# Altium schematic symbol library main 0402.SchLib: 93 symbols
Pins are listed as number, name and electrical type; pins without a type are passive.

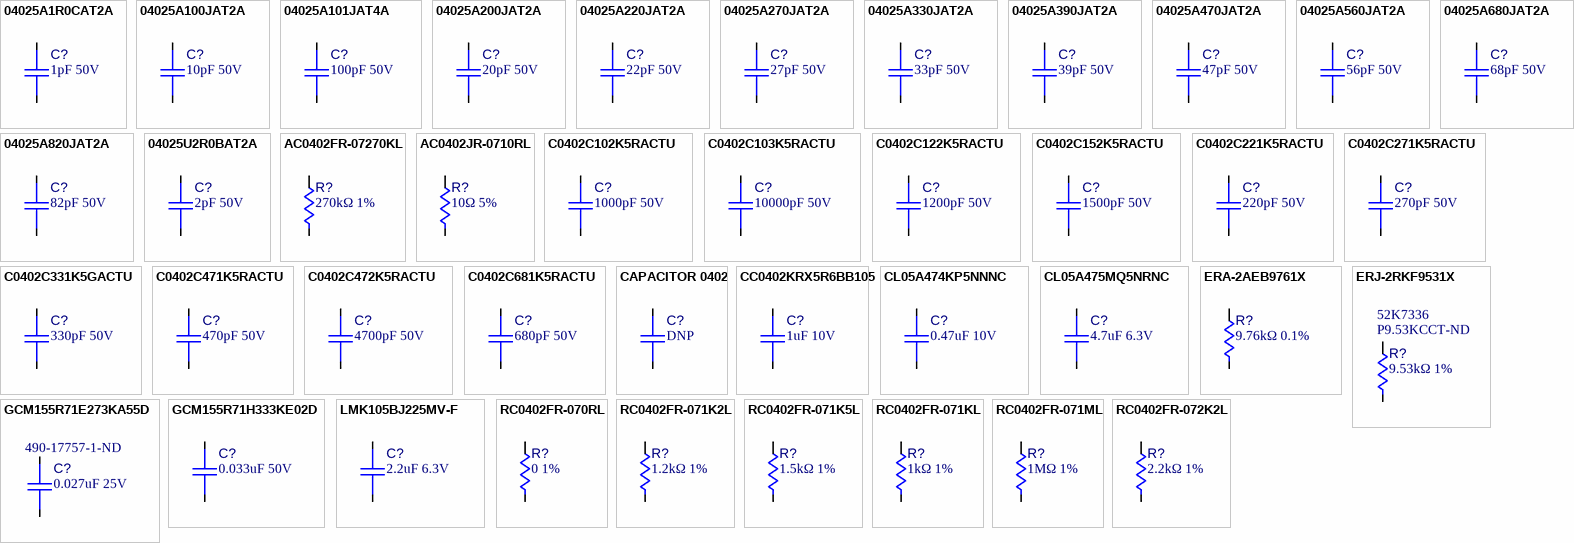
[diagram p0: symbols 04025A1R0CAT2A to RC0402FR-072K2L]

## 04025A1R0CAT2A
designator C?, comment 1pF 50V
CAP CER 1PF 50V C0G/NP0 0402; Manufacturer: AVX; Manufacturer Part Number: 04025A1R0CAT2A; Tolerance: ±0.25pF; Temperature Coefficient: C0G, NP0; Category: Capacitors; Operating Temperature: -55°C ~ 125°C; Voltage - Rated: 50V; Mounting Type: Surface Mount, MLCC; Capacitance: 1pF; Supplier 1: Digi-Key; Supplier Part Number 1: 478-1058-1-ND
footprint CAPC 0402 (1mmX0.5mm)
pins: 1, 2

## 04025A100JAT2A
designator C?, comment 10pF 50V
CAP CER 10PF 50V C0G/NP0 0402; Manufacturer: AVX; Manufacturer Part Number: 04025A100JAT2A; Tolerance: ±5%; Temperature Coefficient: C0G, NP0; Category: Capacitors; Operating Temperature: -55°C ~ 125°C; Voltage - Rated: 50V; Mounting Type: Surface Mount, MLCC; Capacitance: 10pF; Supplier 1: Digi-Key; Supplier Part Number 1: 478-1070-1-ND; Supplier 2: Newark; Supplier Part Number 2: 96M1128
footprint CAPC 0402 (1mmX0.5mm)
pins: 1, 2

## 04025A101JAT4A
designator C?, comment 100pF 50V
CAP CER 100PF 50V C0G/NP0 0402; Manufacturer: AVX; Manufacturer Part Number: 04025A101JAT4A; Tolerance: ±5%; Temperature Coefficient: C0G, NP0; Category: Capacitors; Operating Temperature: -55°C ~ 125°C; Voltage - Rated: 50V; Mounting Type: Surface Mount, MLCC; Capacitance: 100pF; Supplier 1: Digi-Key; Supplier Part Number 1: 478-10668-1-ND
footprint CAPC 0402 (1mmX0.5mm)
pins: 1, 2

## 04025A200JAT2A
designator C?, comment 20pF 50V
CAP CER 20PF 50V C0G/NP0 0402; Manufacturer: AVX; Manufacturer Part Number: 04025A200JAT2A; Tolerance: ±5%; Temperature Coefficient: C0G, NP0; Category: Capacitors; Operating Temperature: -55°C ~ 125°C; Voltage - Rated: 50V; Mounting Type: Surface Mount, MLCC; Capacitance: 20pF; Supplier 1: Digi-Key; Supplier Part Number 1: 478-5764-1-ND
footprint CAPC 0402 (1mmX0.5mm)
pins: 1, 2

## 04025A220JAT2A
designator C?, comment 22pF 50V
CAP CER 22PF 50V C0G/NP0 0402; Manufacturer: AVX; Manufacturer Part Number: 04025A200JAT2A; Tolerance: ±5%; Temperature Coefficient: C0G, NP0; Category: Capacitors; Operating Temperature: -55°C ~ 125°C; Voltage - Rated: 50V; Mounting Type: Surface Mount, MLCC; Capacitance: 22pF; Supplier 1: Digi-Key; Supplier Part Number 1: 478-1074-1-ND; Supplier 2: Newark; Supplier Part Number 2: 96M1143
footprint CAPC 0402 (1mmX0.5mm)
pins: 1, 2

## 04025A270JAT2A
designator C?, comment 27pF 50V
CAP CER 27PF 50V C0G/NP0 0402; Manufacturer: AVX; Manufacturer Part Number: 04025A270JAT2A; Tolerance: ±5%; Temperature Coefficient: C0G, NP0; Category: Capacitors; Operating Temperature: -55°C ~ 125°C; Voltage - Rated: 50V; Mounting Type: Surface Mount, MLCC; Capacitance: 27pF; Supplier 1: Digi-Key; Supplier Part Number 1: 478-1075-1-ND; Supplier 2: Newark; Supplier Part Number 2: 26AC5354; Supplier 3: Mouser; Supplier Part Number 3: 581-04025A270J
footprint CAPC 0402 (1mmX0.5mm)
pins: 1, 2

## 04025A330JAT2A
designator C?, comment 33pF 50V
CAP CER 33PF 50V C0G/NP0 0402; Manufacturer: AVX; Manufacturer Part Number: 04025A330JAT2A; Tolerance: ±5%; Temperature Coefficient: C0G, NP0; Category: Capacitors; Operating Temperature: -55°C ~ 125°C; Voltage - Rated: 50V; Mounting Type: Surface Mount, MLCC; Capacitance: 33pF; Supplier 1: Digi-Key; Supplier Part Number 1: 478-1076-1-ND
footprint CAPC 0402 (1mmX0.5mm)
pins: 1, 2

## 04025A390JAT2A
designator C?, comment 39pF 50V
CAP CER 39PF 50V C0G/NP0 0402; Manufacturer: AVX; Manufacturer Part Number: 04025A390JAT2A; Tolerance: ±5%; Temperature Coefficient: C0G, NP0; Category: Capacitors; Operating Temperature: -55°C ~ 125°C; Voltage - Rated: 50V; Mounting Type: Surface Mount, MLCC; Capacitance: 39pF; Supplier 1: Digi-Key; Supplier Part Number 1: 478-1077-1-ND
footprint CAPC 0402 (1mmX0.5mm)
pins: 1, 2

## 04025A470JAT2A
designator C?, comment 47pF 50V
CAP CER 47PF 50V C0G/NP0 0402; Manufacturer: AVX; Manufacturer Part Number: 04025A470JAT2A; Tolerance: ±5%; Temperature Coefficient: C0G, NP0; Category: Capacitors; Operating Temperature: -55°C ~ 125°C; Voltage - Rated: 50V; Mounting Type: Surface Mount, MLCC; Capacitance: 47pF; Supplier 1: Digi-Key; Supplier Part Number 1: 478-1078-1-ND; Supplier 2: Newark; Supplier Part Number 2: 96M1153; Supplier 3: Mouser; Supplier Part Number 3: 581-04025A470J
footprint CAPC 0402 (1mmX0.5mm)
pins: 1, 2

## 04025A560JAT2A
designator C?, comment 56pF 50V
CAP CER 56PF 50V C0G/NP0 0402; Manufacturer: AVX; Manufacturer Part Number: 04025A560JAT2A; Tolerance: ±5%; Temperature Coefficient: C0G, NP0; Category: Capacitors; Operating Temperature: -55°C ~ 125°C; Voltage - Rated: 50V; Mounting Type: Surface Mount, MLCC; Capacitance: 56pF; Supplier 1: Digi-Key; Supplier Part Number 1: 478-1079-1-ND
footprint CAPC 0402 (1mmX0.5mm)
pins: 1, 2

## 04025A680JAT2A
designator C?, comment 68pF 50V
CAP CER 68PF 50V C0G/NP0 0402; Manufacturer: AVX; Manufacturer Part Number: 04025A680JAT2A; Tolerance: ±5%; Temperature Coefficient: C0G, NP0; Category: Capacitors; Operating Temperature: -55°C ~ 125°C; Voltage - Rated: 50V; Mounting Type: Surface Mount, MLCC; Capacitance: 68pF; Supplier 1: Digi-Key; Supplier Part Number 1: 478-1080-1-ND
footprint CAPC 0402 (1mmX0.5mm)
pins: 1, 2

## 04025A820JAT2A
designator C?, comment 82pF 50V
CAP CER 82PF 50V C0G/NP0 0402; Manufacturer: AVX; Manufacturer Part Number: 04025A820JAT2A; Tolerance: ±5%; Temperature Coefficient: C0G, NP0; Category: Capacitors; Operating Temperature: -55°C ~ 125°C; Voltage - Rated: 50V; Mounting Type: Surface Mount, MLCC; Capacitance: 82pF; Supplier 1: Digi-Key; Supplier Part Number 1: 478-1081-1-ND
footprint CAPC 0402 (1mmX0.5mm)
pins: 1, 2

## 04025U2R0BAT2A
designator C?, comment 2pF 50V
CAP CER 2PF 50V C0G/NP0 0402; Manufacturer: AVX; Manufacturer Part Number: 04025U2R0BAT2A; Tolerance: ±0.25pF; Temperature Coefficient: C0G, NP0; Category: Capacitors; Operating Temperature: -55°C ~ 125°C; Voltage - Rated: 50V; Mounting Type: Surface Mount, MLCC; Capacitance: 2pF; Supplier 1: Digi-Key; Supplier Part Number 1: 478-3833-1-ND
footprint CAPC 0402 (1mmX0.5mm)
pins: 1, 2

## AC0402FR-07270KL
designator R?, comment 270kΩ 1%
RES SMD 270K OHM 1% 1/16W 0402; Manufacturer: Yageo; Manufacturer Part Number: AC0402FR-07270KL; Power (Watts): 0.063W, 1/16W; Temperature Coefficient: ±100ppm/°C; Category: Resistors; Tolerance: ±1%; Operating Temperature: -55°C ~ 155°C; Resistance: 270kΩ; Supplier 1: Digi-Key; Supplier Part Number 1: 311-270KLBCT-ND
footprint RESISTOR 0402 (1mm x 0.5mm)
pins: 1, 2

## AC0402JR-0710RL
designator R?, comment 10Ω 5%
RES SMD 10 OHM 5% 1/16W 0402; Manufacturer: Yageo; Manufacturer Part Number: AC0402JR-0710RL; Power (Watts): 0.063W, 1/16W; Temperature Coefficient: ±100ppm/°C; Category: Resistors; Tolerance: ±5%; Operating Temperature: -55°C ~ 155°C; Resistance: 10Ω; Supplier 1: Digi-Key; Supplier Part Number 1: YAG3519CT-ND
footprint RESISTOR 0402 (1mm x 0.5mm)
pins: 1, 2

## C0402C102K5RACTU
designator C?, comment 1000pF 50V
CAP CER 1000PF 50V C0G/NP0 0402; Manufacturer: KEMET; Manufacturer Part Number: C0402C102K5RACTU; Tolerance: ±10%; Temperature Coefficient: X7R; Category: Capacitors; Operating Temperature: -55°C ~ 125°C; Voltage - Rated: 50V; Mounting Type: Surface Mount, MLCC; Capacitance: 1000pF; Supplier 1: Digi-Key; Supplier Part Number 1: 399-1032-1-ND; Supplier 2: Newark; Supplier Part Number 2: 74C3082
footprint CAPC 0402 (1mmX0.5mm)
pins: 1, 2

## C0402C103K5RACTU
designator C?, comment 10000pF 50V
CAP CER 10000PF 50V C0G/NP0 0402; Manufacturer: KEMET; Manufacturer Part Number: C0402C103K5RACTU; Tolerance: ±10%; Temperature Coefficient: X7R; Category: Capacitors; Operating Temperature: -55°C ~ 125°C; Voltage - Rated: 50V; Mounting Type: Surface Mount, MLCC; Capacitance: 10000pF; Supplier 1: Digi-Key; Supplier Part Number 1: 399-3066-1-ND; Supplier 2: Newark; Supplier Part Number 2: 53M7152; Supplier 3: Newark; Supplier Part Number 3: 70K9076; Supplier 4: Digi-Key; Supplier Part Number 4: 399-C0402C103K5RAC7867CT-ND; Supplier 5: Mouser; Supplier Part Number 5: 80-C0402C103K5R
footprint CAPC 0402 (1mmX0.5mm)
pins: 1, 2

## C0402C122K5RACTU
designator C?, comment 1200pF 50V
CAP CER 1200PF 50V C0G/NP0 0402; Manufacturer: KEMET; Manufacturer Part Number: C0402C122K5RACTU; Tolerance: ±10%; Temperature Coefficient: X7R; Category: Capacitors; Operating Temperature: -55°C ~ 125°C; Voltage - Rated: 50V; Mounting Type: Surface Mount, MLCC; Capacitance: 1200pF; Supplier 1: Digi-Key; Supplier Part Number 1: 399-1028-1-ND; Supplier 2: Newark; Supplier Part Number 2: 01J3304; Supplier 3: Avnet; Supplier Part Number 3: 01J3304; Supplier 4: Digi-Key; Supplier Part Number 4: 399-C0402C122K5RAC7867CT-ND
footprint CAPC 0402 (1mmX0.5mm)
pins: 1, 2

## C0402C152K5RACTU
designator C?, comment 1500pF 50V
CAP CER 1500PF 50V C0G/NP0 0402; Manufacturer: KEMET; Manufacturer Part Number: C0402C152K5RACTU; Tolerance: ±10%; Temperature Coefficient: X7R; Category: Capacitors; Operating Temperature: -55°C ~ 125°C; Voltage - Rated: 50V; Mounting Type: Surface Mount, MLCC; Capacitance: 1500pF; Supplier 1: Newark; Supplier Part Number 1: 01J3924; Supplier 2: Avnet; Supplier Part Number 2: 03C3044; Supplier 3: Digi-Key; Supplier Part Number 3: 399-C0402C152K5RAC7867CT-ND
footprint CAPC 0402 (1mmX0.5mm)
pins: 1, 2

## C0402C221K5RACTU
designator C?, comment 220pF 50V
CAP CER 220PF 50V C0G/NP0 0402; Manufacturer: KEMET; Manufacturer Part Number: C0402C221K5RACTU; Tolerance: ±10%; Temperature Coefficient: X7R; Category: Capacitors; Operating Temperature: -55°C ~ 125°C; Voltage - Rated: 50V; Mounting Type: Surface Mount, MLCC; Capacitance: 220pF; Supplier 1: Digi-Key; Supplier Part Number 1: 399-1030-1-ND; Supplier 2: Newark; Supplier Part Number 2: 07J4442; Supplier 3: Mouser; Supplier Part Number 3: 80-C0402C221K5R; Supplier 4: Digi-Key; Supplier Part Number 4: 399-C0402C221K5RAC7867CT-ND
footprint CAPC 0402 (1mmX0.5mm)
pins: 1, 2

## C0402C271K5RACTU
designator C?, comment 270pF 50V
CAP CER 270PF 50V C0G/NP0 0402; Manufacturer: KEMET; Manufacturer Part Number: C0402C271K5RACTU; Tolerance: ±10%; Temperature Coefficient: X7R; Category: Capacitors; Operating Temperature: -55°C ~ 125°C; Voltage - Rated: 50V; Mounting Type: Surface Mount, MLCC; Capacitance: 270pF; Supplier 1: Digi-Key; Supplier Part Number 1: 399-7784-1-ND
footprint CAPC 0402 (1mmX0.5mm)
pins: 1, 2

## C0402C331K5GACTU
designator C?, comment 330pF 50V
CAP CER 330PF 50V C0G/NP0 0402; Manufacturer: KEMET; Manufacturer Part Number: C0402C331K5GACTU; Tolerance: ±10%; Temperature Coefficient: X7R; Category: Capacitors; Operating Temperature: -55°C ~ 125°C; Voltage - Rated: 50V; Mounting Type: Surface Mount, MLCC; Capacitance: 330pF; Supplier 1: Digi-Key; Supplier Part Number 1: 399-8963-1-ND
footprint CAPC 0402 (1mmX0.5mm)
pins: 1, 2

## C0402C471K5RACTU
designator C?, comment 470pF 50V
CAP CER 470PF 50V C0G/NP0 0402; Manufacturer: KEMET; Manufacturer Part Number: C0402C471K5RACTU; Tolerance: ±10%; Temperature Coefficient: X7R; Category: Capacitors; Operating Temperature: -55°C ~ 125°C; Voltage - Rated: 50V; Mounting Type: Surface Mount, MLCC; Capacitance: 470pF; Supplier 1: Digi-Key; Supplier Part Number 1: 399-1025-1-ND; Supplier 2: Newark; Supplier Part Number 2: 88C9981
footprint CAPC 0402 (1mmX0.5mm)
pins: 1, 2

## C0402C472K5RACTU
designator C?, comment 4700pF 50V
CAP CER 4700PF 50V C0G/NP0 0402; Manufacturer: KEMET; Manufacturer Part Number: C0402C472K5RACTU; Tolerance: ±10%; Temperature Coefficient: X7R; Category: Capacitors; Operating Temperature: -55°C ~ 125°C; Voltage - Rated: 50V; Mounting Type: Surface Mount, MLCC; Capacitance: 4700pF; Supplier 1: Digi-Key; Supplier Part Number 1: 399-3072-1-ND; Supplier 2: Newark; Supplier Part Number 2: 53M7170
footprint CAPC 0402 (1mmX0.5mm)
pins: 1, 2

## C0402C681K5RACTU
designator C?, comment 680pF 50V
CAP CER 680PF 50V C0G/NP0 0402; Manufacturer: KEMET; Manufacturer Part Number: C0402C681K5RACTU; Tolerance: ±10%; Temperature Coefficient: X7R; Category: Capacitors; Operating Temperature: -55°C ~ 125°C; Voltage - Rated: 50V; Mounting Type: Surface Mount, MLCC; Capacitance: 680pF; Supplier 1: Digi-Key; Supplier Part Number 1: 399-1027-1-ND; Supplier 2: Newark; Supplier Part Number 2: 14AC3619; Supplier 3: Digi-Key; Supplier Part Number 3: 399-C0402C681K5RAC7867CT-ND; Supplier 4: Mouser; Supplier Part Number 4: 80-C0402C681K5R
footprint CAPC 0402 (1mmX0.5mm)
pins: 1, 2

## CAPACITOR 0402
designator C?, comment DNP
CAPACITOR NOT POPULATED; Manufacturer: DNP; Manufacturer Part Number: DNP; Category: Capacitors
footprint CAPC 0402 (1mmX0.5mm)
pins: 1, 2

## CC0402KRX5R6BB105
designator C?, comment 1uF 10V
CAP CER 1UF 10V X7R 0402; Manufacturer: Yageo; Manufacturer Part Number: CC0402KRX5R6BB105; Tolerance: ±10%; Category: Capacitors; Temperature Coefficient: X7R; Operating Temperature: -55°C ~ 125°C; Voltage - Rated: 10V; Mounting Type: Surface Mount, MLCC; Capacitance: 1uF; Supplier 1: Digi-Key; Supplier Part Number 1: 311-1439-1-ND; Supplier 2: Newark; Supplier Part Number 2: 59M4960
footprint CAPC 0402 (1mmX0.5mm)
pins: 1, 2

## CL05A474KP5NNNC
designator C?, comment 0.47uF 10V
CAP CER 0.47UF 10V X5R 0402; Manufacturer: Samsung; Manufacturer Part Number: CL05A474KP5NNNC; Tolerance: ±10%; Category: Capacitors; Temperature Coefficient: X5R; Operating Temperature: -55°C ~ 125°C; Voltage - Rated: 10V; Mounting Type: Surface Mount, MLCC; Capacitance: 0.47uF; Supplier 1: Digi-Key; Supplier Part Number 1: 1276-1173-1-ND
footprint CAPC 0402 (1mmX0.5mm)
pins: 1, 2

## CL05A475MQ5NRNC
designator C?, comment 4.7uF 6.3V
CAP CER 4.7UF 6.3V X5R 0402; Manufacturer: Samsung; Manufacturer Part Number: CL05A475MQ5NRNC; Tolerance: ±10%; Category: Capacitors; Temperature Coefficient: X5R; Operating Temperature: -55°C ~ 125°C; Voltage - Rated: 6.3V; Mounting Type: Surface Mount, MLCC; Capacitance: 4.7uF; Supplier 1: Digi-Key; Supplier Part Number 1: 1276-1056-1-ND
footprint CAPC 0402 (1mmX0.5mm)
pins: 1, 2

## ERA-2AEB9761X
designator R?, comment 9.76kΩ 0.1%
RES SMD 9.76KOHM 0.1% 1/16W 0402; Manufacturer: Panasonic; Manufacturer Part Number: ERA-2AEB9761X; Power (Watts): 0.063W, 1/16W; Temperature Coefficient: ±25ppm/°C; Category: Resistors; Tolerance: ±0.1%; Operating Temperature: -55°C ~ 155°C; Resistance: 9.76kΩ; Supplier 1: Digi-Key; Supplier 2: Mouser; Supplier Part Number 2: 667-ERA-2AEB9761X; Supplier Part Number 1: P9.76KDCCT-ND
footprint RESISTOR 0402 (1mm x 0.5mm)
pins: 1, 2

## ERJ-2RKF9531X
designator R?, comment 9.53kΩ 1%  Supplier Part Number 1: P9.53KCCT-ND  Supplier Part Number 2: 52K7336
RES SMD 9.53K OHM 1% 1/10W 0402; Manufacturer: Panasonic; Manufacturer Part Number: ERJ-2RKF9531X; Power (Watts): 0.063W, 1/10W; Temperature Coefficient: ±100ppm/°C; Category: Resistors; Tolerance: 1%; Operating Temperature: -55°C ~ 155°C; Resistance: 9.53kΩ; Supplier 1: Digi-Key; Supplier 2: Newark
footprint RESISTOR 0402 (1mm x 0.5mm)
pins: 1, 2

## GCM155R71E273KA55D
designator C?, comment 0.027uF 25V  Supplier Part Number 1: 490-17757-1-ND
CAP CER 0.027UF 25V X7R 0402; Manufacturer: KEMET; Manufacturer Part Number: C0402C103K5RACTU; Tolerance: ±10%; Voltage - Rated: 50V; Capacitance: 10000pF; Category: Capacitors; Temperature Coefficient: X7R; Operating Temperature: -55°C ~ 125°C; Mounting Type: Surface Mount, MLCC; Supplier 1: Digi-Key
footprint CAPC 0402 (1mmX0.5mm)
pins: 1, 2

## GCM155R71H333KE02D
designator C?, comment 0.033uF 50V
CAP CER 0.033UF 50V X7R 0402; Manufacturer: Murata; Manufacturer Part Number: GCM155R71H333KE02D; Tolerance: ±10%; Category: Capacitors; Temperature Coefficient: X7R; Operating Temperature: -55°C ~ 125°C; Voltage - Rated: 50V; Mounting Type: Surface Mount, MLCC; Capacitance: 0.033uF; Supplier 1: Digi-Key; Supplier Part Number 1: 490-13296-1-ND
footprint CAPC 0402 (1mmX0.5mm)
pins: 1, 2

## LMK105BJ225MV-F
designator C?, comment 2.2uF 6.3V
CAP CER 2.2UF 6.3V X5R 0402; Manufacturer: Taiyo Yuden; Manufacturer Part Number: LMK105BJ225MV-F; Tolerance: ±20%; Voltage - Rated: 10V; Capacitance: 4.7uF; Category: Capacitors; Temperature Coefficient: X5R; Operating Temperature: -55°C ~ 125°C; Mounting Type: Surface Mount, MLCC; Supplier 1: Digi-Key; Supplier Part Number 1: 587-3153-1-ND
footprint CAPC 0402 (1mmX0.5mm)
pins: 1, 2

## RC0402FR-070RL
designator R?, comment 0 1%
RES 0 JUMPER 1/10W 0402; Manufacturer: Yageo; Manufacturer Part Number: RC0402FR-070RL; Resistance: 0mR; Power Rating: 62.5mW; Voltage Rating: 50V; Temperature Coefficient: 200ppm/°C; Category: Chip SMD Resistors; Stock 1: 2292192; Pricing 1: 1=0.10000, 10=0.01300, 25=0.00920, 50=0.00720, 100=0.00530, 250=0.00400, 500=0.00320, 1000=0.00236, 5000=0.00169 (USD); Case/Package: 0402; Min Operating Temperature: -55°C; Max Operating Temperature: 155°C; Tolerance: 1%; ComponentLink1URL: https://datasheet.ciiva.com/8896/pyu-rc0402-51-rohs-l-6-8896149.pdf?src-supplier=Avnet; ComponentLink1Description: https://datasheet.ciiva.com/8896/pyu-rc0402-51-rohs-l-6-8896149.pdf?src-supplier=Avnet; Supplier 1: Digi-Key; Supplier Part Number 1: 311-0.0LRCT-ND; Supplier 2: Mouser; Supplier Part Number 2: 603-RC0402FR-070RL; Supplier 3: Digi-Key; Supplier Part Number 3: P0.0JCT-ND
footprint RESISTOR 0402 (1mm x 0.5mm)
pins: 1, 2

## RC0402FR-071K2L
designator R?, comment 1.2kΩ 1%
RES SMD 1.2K OHM 1% 1/16W 0402; Manufacturer: Yageo; Manufacturer Part Number: RC0402FR-071K2L; Power (Watts): 0.063W, 1/16W; Temperature Coefficient: ±100ppm/°C; Category: Resistors; Tolerance: ±1%; Operating Temperature: -55°C ~ 155°C; Resistance: 1.2kΩ; Supplier 1: Digi-Key; Supplier Part Number 1: 311-1.20KLRCT-ND
footprint RESISTOR 0402 (1mm x 0.5mm)
pins: 1, 2

## RC0402FR-071K5L
designator R?, comment 1.5kΩ 1%
RES SMD 1.5K OHM 1% 1/16W 0402; Manufacturer: Yageo; Manufacturer Part Number: RC0402FR-071K5L; Power (Watts): 0.063W, 1/16W; Temperature Coefficient: ±100ppm/°C; Category: Resistors; Tolerance: ±1%; Operating Temperature: -55°C ~ 155°C; Resistance: 1.5kΩ; Supplier 1: Digi-Key; Supplier Part Number 1: 311-1.50KLRCT-ND
footprint RESISTOR 0402 (1mm x 0.5mm)
pins: 1, 2

## RC0402FR-071KL
designator R?, comment 1kΩ 1%
RES SMD 1K OHM 1% 1/16W 0402; Manufacturer: Yageo; Manufacturer Part Number: RC0402FR-071KL; Power (Watts): 0.063W, 1/16W; Temperature Coefficient: ±100ppm/°C; Category: Resistors; Tolerance: ±1%; Operating Temperature: -55°C ~ 155°C; Resistance: 1kΩ; Supplier 1: Digi-Key; Supplier Part Number 1: 311-1.00KLRCT-ND; Supplier 2: Newark; Supplier Part Number 2: 48Y4534
footprint RESISTOR 0402 (1mm x 0.5mm)
pins: 1, 2

## RC0402FR-071ML
designator R?, comment 1MΩ 1%
RES SMD 1M OHM 1% 1/16W 0402; Manufacturer: Yageo; Manufacturer Part Number: RC0402FR-071ML; Power (Watts): 0.063W, 1/16W; Temperature Coefficient: ±100ppm/°C; Category: Resistors; Tolerance: ±1%; Operating Temperature: -55°C ~ 155°C; Resistance: 1MΩ; Supplier 1: Digi-Key; Supplier Part Number 1: 311-1.00MLRCT-ND; Supplier 2: Newark; Supplier Part Number 2: 66R1086; Supplier 3: Mouser; Supplier Part Number 3: 603-RC0402FR-071ML
footprint RESISTOR 0402 (1mm x 0.5mm)
pins: 1, 2

## RC0402FR-072K2L
designator R?, comment 2.2kΩ 1%
RES SMD 2.2K OHM 1% 1/16W 0402; Manufacturer: Yageo; Manufacturer Part Number: RC0402FR-072K2L; Power (Watts): 0.063W, 1/16W; Temperature Coefficient: ±100ppm/°C; Category: Resistors; Tolerance: ±1%; Operating Temperature: -55°C ~ 155°C; Resistance: 2.2kΩ; Supplier 1: Newark; Supplier Part Number 1: 98K7523; Supplier 2: Farnell; Supplier Part Number 2: 9239278; Supplier 3: Digi-Key; Supplier Part Number 3: 311-2.20KLRCT-ND
footprint RESISTOR 0402 (1mm x 0.5mm)
pins: 1, 2

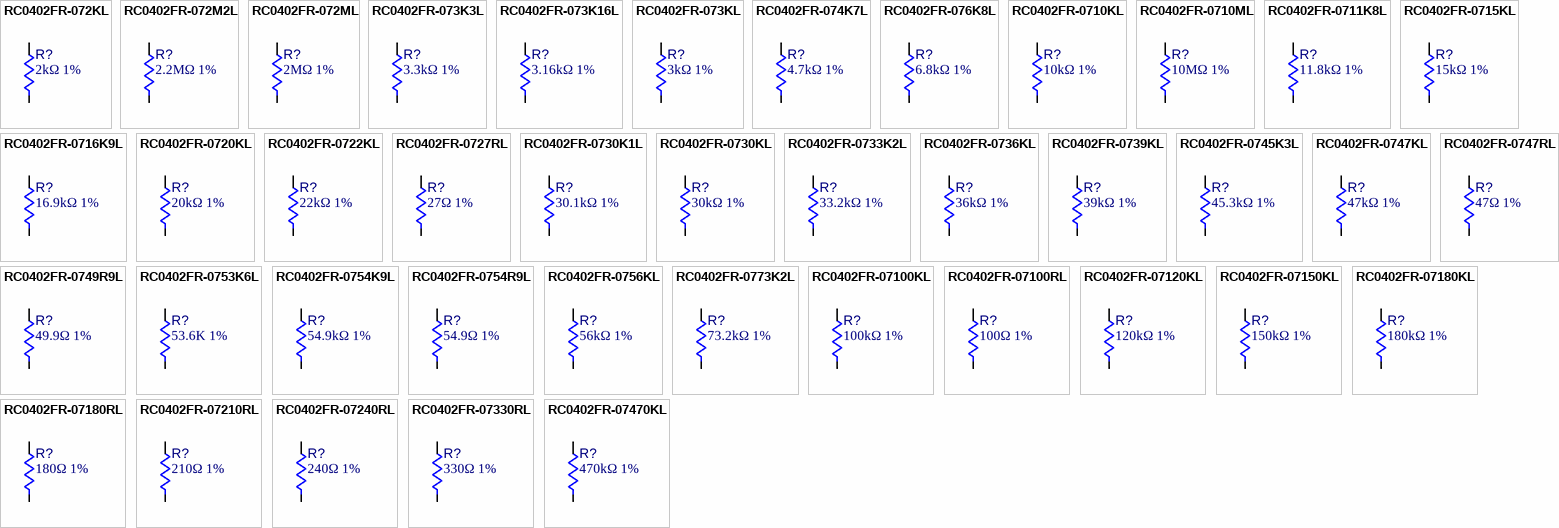
[diagram p1: symbols RC0402FR-072KL to RC0402FR-07470KL]

## RC0402FR-072KL
designator R?, comment 2kΩ 1%
RES SMD 2K OHM 1% 1/16W 0402; Manufacturer: Yageo; Manufacturer Part Number: RC0402FR-072KL; Power (Watts): 0.063W, 1/16W; Temperature Coefficient: ±100ppm/°C; Category: Resistors; Tolerance: ±1%; Operating Temperature: -55°C ~ 155°C; Resistance: 2kΩ; Supplier 1: Digi-Key; Supplier Part Number 1: CR0402-FX-2001GLFCT-ND; Supplier 2: Digi-Key; Supplier Part Number 2: 311-2KLRCT-ND; Supplier 3: Mouser; Supplier Part Number 3: 652-CR0402FX-2001GLF
footprint RESISTOR 0402 (1mm x 0.5mm)
pins: 1, 2

## RC0402FR-072M2L
designator R?, comment 2.2MΩ 1%
RES SMD 2.2M OHM 1% 1/16W 0402; Manufacturer: Yageo; Manufacturer Part Number: RC0402FR-072M2L; Power (Watts): 0.063W, 1/16W; Temperature Coefficient: ±100ppm/°C; Category: Resistors; Tolerance: ±1%; Operating Temperature: -55°C ~ 155°C; Resistance: 2.2MΩ; Supplier 1: Avnet; Supplier Part Number 1: RC0402FR-072M2L; Supplier 2: Newark; Supplier Part Number 2: 98K7529
footprint RESISTOR 0402 (1mm x 0.5mm)
pins: 1, 2

## RC0402FR-072ML
designator R?, comment 2MΩ 1%
RES SMD 2M OHM 1% 1/16W 0402; Manufacturer: Yageo; Manufacturer Part Number: RC0402FR-071ML; Power (Watts): 0.063W, 1/16W; Temperature Coefficient: ±100ppm/°C; Category: Resistors; Tolerance: ±1%; Operating Temperature: -55°C ~ 155°C; Resistance: 2MΩ; Supplier 1: Digi-Key; Supplier Part Number 1: 13-RC0402FR-072MLTR-ND; Supplier 2: Future Electronics; Supplier Part Number 2: 1279221
footprint RESISTOR 0402 (1mm x 0.5mm)
pins: 1, 2

## RC0402FR-073K3L
designator R?, comment 3.3kΩ 1%
RES SMD 3.3K OHM 1% 1/16W 0402; Manufacturer: Yageo; Manufacturer Part Number: RC0402FR-073K3L; Power (Watts): 0.063W, 1/16W; Temperature Coefficient: ±100ppm/°C; Category: Resistors; Tolerance: ±1%; Operating Temperature: -55°C ~ 155°C; Resistance: 3.3kΩ; Supplier 1: Digi-Key; Supplier Part Number 1: 311-3.30KLRCT-ND
footprint RESISTOR 0402 (1mm x 0.5mm)
pins: 1, 2

## RC0402FR-073K16L
designator R?, comment 3.16kΩ 1%
RES 3.16K OHM 1% 1/16W 0402; Manufacturer: Yageo; Manufacturer Part Number: RC0402FR-073K16L; Power (Watts): 0.063W, 1/16W; Temperature Coefficient: ±100ppm/°C; Category: Resistors; Tolerance: ±1%; Operating Temperature: -55°C ~ 155°C; Resistance: 3.16kΩ; Supplier 1: Digi-Key; Supplier Part Number 1: YAG3146CT-ND; Supplier 2: Newark; Supplier Part Number 2: 82AH7924; Supplier 3: Mouser; Supplier Part Number 3: 603-RC0402FR-073K16L
footprint RESISTOR 0402 (1mm x 0.5mm)
pins: 1, 2

## RC0402FR-073KL
designator R?, comment 3kΩ 1%
RES SMD 3K OHM 1% 1/16W 0402; Manufacturer: Yageo; Manufacturer Part Number: RC0402FR-073KL; Power (Watts): 0.063W, 1/16W; Temperature Coefficient: ±100ppm/°C; Category: Resistors; Tolerance: ±1%; Operating Temperature: -55°C ~ 155°C; Resistance: 3kΩ; Supplier 1: Future Electronics; Supplier Part Number 1: 7204753; Supplier 2: Digi-Key; Supplier Part Number 2: 311-3KLRCT-ND
footprint RESISTOR 0402 (1mm x 0.5mm)
pins: 1, 2

## RC0402FR-074K7L
designator R?, comment 4.7kΩ 1%
RES SMD 4.7K OHM 1% 1/16W 0402; Manufacturer: Yageo; Manufacturer Part Number: RC0402FR-074K7L; Power (Watts): 0.063W, 1/16W; Temperature Coefficient: ±100ppm/°C; Category: Resistors; Tolerance: ±1%; Operating Temperature: -55°C ~ 155°C; Resistance: 4.7kΩ; Supplier 1: Digi-Key; Supplier Part Number 1: 311-4.7KLRCT-ND
footprint RESISTOR 0402 (1mm x 0.5mm)
pins: 1, 2

## RC0402FR-076K8L
designator R?, comment 6.8kΩ 1%
RES SMD 6.8K OHM 1% 1/16W 0402; Manufacturer: Yageo; Manufacturer Part Number: RC0402FR-076K8L; Power (Watts): 0.063W, 1/16W; Temperature Coefficient: ±100ppm/°C; Category: Resistors; Tolerance: ±1%; Operating Temperature: -55°C ~ 155°C; Resistance: 6.8kΩ; Supplier 1: Digi-Key; Supplier Part Number 1: 311-6.80KHRCT-ND
footprint RESISTOR 0402 (1mm x 0.5mm)
pins: 1, 2

## RC0402FR-0710KL
designator R?, comment 10kΩ 1%
RES SMD 10K OHM 1% 1/16W 0402; Manufacturer: Yageo; Manufacturer Part Number: RC0402FR-0710KL; Power (Watts): 0.063W, 1/16W; Temperature Coefficient: ±100ppm/°C; Category: Resistors; Tolerance: ±1%; Operating Temperature: -55°C ~ 155°C; Resistance: 10kΩ; Supplier 1: Digi-Key; Supplier Part Number 1: 311-10.0KLRCT-ND; Supplier 2: Newark; Supplier Part Number 2: 75X0131; Supplier 3: Future Electronics; Supplier Part Number 3: 3388022; Supplier 4: Mouser; Supplier Part Number 4: 603-RC0402FR-0710KL
footprint RESISTOR 0402 (1mm x 0.5mm)
pins: 1, 2

## RC0402FR-0710ML
designator R?, comment 10MΩ 1%
RES SMD 10M OHM 1% 1/16W 0402; Manufacturer: Yageo; Manufacturer Part Number: RC0402FR-0710ML; Power (Watts): 0.063W, 1/16W; Temperature Coefficient: ±100ppm/°C; Category: Resistors; Tolerance: ±1%; Operating Temperature: -55°C ~ 155°C; Resistance: 10MΩ; Supplier 1: Digi-Key; Supplier Part Number 1: 311-10.0MLRCT-ND
footprint RESISTOR 0402 (1mm x 0.5mm)
pins: 1, 2

## RC0402FR-0711K8L
designator R?, comment 11.8kΩ 1%
RES SMD 11.8K OHM 1% 1/16W 0402; Manufacturer: Yageo; Manufacturer Part Number: RC0402FR-0711K8L; Power (Watts): 0.063W, 1/16W; Temperature Coefficient: ±100ppm/°C; Category: Resistors; Tolerance: ±1%; Operating Temperature: -55°C ~ 155°C; Resistance: 11.8kΩ; Supplier 1: Digi-Key; Supplier Part Number 1: YAG2958CT-ND
footprint RESISTOR 0402 (1mm x 0.5mm)
pins: 1, 2

## RC0402FR-0715KL
designator R?, comment 15kΩ 1%
RES SMD 15K OHM 1% 1/16W 0402; Manufacturer: Yageo; Manufacturer Part Number: RC0402FR-0715KL; Power (Watts): 0.063W, 1/16W; Temperature Coefficient: ±100ppm/°C; Category: Resistors; Tolerance: ±1%; Operating Temperature: -55°C ~ 155°C; Resistance: 15kΩ; Supplier 1: Digi-Key; Supplier Part Number 1: 311-15.0KLRCT-ND; Supplier 2: Mouser; Supplier Part Number 2: 603-RC0402FR-0715KL
footprint RESISTOR 0402 (1mm x 0.5mm)
pins: 1, 2

## RC0402FR-0716K9L
designator R?, comment 16.9kΩ 1%
RES SMD 16.9K OHM 1% 1/16W 0402; Manufacturer: Yageo; Manufacturer Part Number: RC0402FR-0716K9L; Power (Watts): 0.063W, 1/16W; Temperature Coefficient: ±100ppm/°C; Category: Resistors; Tolerance: ±1%; Operating Temperature: -55°C ~ 155°C; Resistance: 16.9kΩ; Supplier 1: Digi-Key; Supplier Part Number 1: YAG3003CT-ND
footprint RESISTOR 0402 (1mm x 0.5mm)
pins: 1, 2

## RC0402FR-0720KL
designator R?, comment 20kΩ 1%
RES SMD 20K OHM 1% 1/16W 0402; Manufacturer: Yageo; Manufacturer Part Number: RC0402FR-0720KL; Power (Watts): 0.063W, 1/16W; Temperature Coefficient: ±100ppm/°C; Category: Resistors; Tolerance: ±1%; Operating Temperature: -55°C ~ 155°C; Resistance: 20kΩ; Supplier 1: Digi-Key; Supplier Part Number 1: 311-20.0KLRCT-ND; Supplier 2: Mouser; Supplier Part Number 2: 603-RC0402FR-0720KL; Supplier 3: Farnell; Supplier Part Number 3: 3495551
footprint RESISTOR 0402 (1mm x 0.5mm)
pins: 1, 2

## RC0402FR-0722KL
designator R?, comment 22kΩ 1%
RES SMD 22K OHM 1% 1/16W 0402; Manufacturer: Yageo; Manufacturer Part Number: RC0402FR-0722KL; Power (Watts): 0.063W, 1/16W; Temperature Coefficient: ±100ppm/°C; Category: Resistors; Tolerance: ±1%; Operating Temperature: -55°C ~ 155°C; Resistance: 22kΩ; Supplier 1: Digi-Key; Supplier Part Number 1: 311-22.0KLRCT-ND; Supplier 2: Future Electronics; Supplier Part Number 2: 5935309
footprint RESISTOR 0402 (1mm x 0.5mm)
pins: 1, 2

## RC0402FR-0727RL
designator R?, comment 27Ω 1%
RES SMD 27 OHM 1% 1/16W 0402; Manufacturer: Yageo; Manufacturer Part Number: RC0402FR-0727RL; Power (Watts): 0.063W, 1/16W; Temperature Coefficient: ±100ppm/°C; Category: Resistors; Tolerance: ±1%; Operating Temperature: -55°C ~ 155°C; Resistance: 27Ω; Supplier 1: Digi-Key; Supplier Part Number 1: 311-27JRCT-ND; Supplier 2: Mouser; Supplier Part Number 2: 603-RC0402JR-0727RL; Supplier 3: Newark; Supplier Part Number 3: 67R9991
footprint RESISTOR 0402 (1mm x 0.5mm)
pins: 1, 2

## RC0402FR-0730K1L
designator R?, comment 30.1kΩ 1%
RES SMD 30.1K OHM 1% 1/16W 0402; Manufacturer: Yageo; Manufacturer Part Number: RC0402FR-0730K1L; Power (Watts): 0.063W, 1/16W; Temperature Coefficient: ±100ppm/°C; Category: Resistors; Tolerance: ±1%; Operating Temperature: -55°C ~ 155°C; Resistance: 30.1kΩ; Supplier 1: Digi-Key; Supplier Part Number 1: 311-30.1KLRCT-ND
footprint RESISTOR 0402 (1mm x 0.5mm)
pins: 1, 2

## RC0402FR-0730KL
designator R?, comment 30kΩ 1%
RES SMD 30K OHM 1% 1/16W 0402; Manufacturer: Yageo; Manufacturer Part Number: RC0402FR-0730KL; Power (Watts): 0.063W, 1/16W; Temperature Coefficient: ±100ppm/°C; Category: Resistors; Tolerance: ±1%; Operating Temperature: -55°C ~ 155°C; Resistance: 30kΩ; Supplier 1: Digi-Key; Supplier Part Number 1: 311-30.0KLRCT-ND; Supplier 2: Newark; Supplier Part Number 2: 59M5008
footprint RESISTOR 0402 (1mm x 0.5mm)
pins: 1, 2

## RC0402FR-0733K2L
designator R?, comment 33.2kΩ 1%
RES SMD 33.2K OHM 1% 1/16W 0402; Manufacturer: Yageo; Manufacturer Part Number: RC0402FR-0733K2L; Power (Watts): 0.063W, 1/16W; Temperature Coefficient: ±100ppm/°C; Category: Resistors; Tolerance: ±1%; Operating Temperature: -55°C ~ 155°C; Resistance: 33.2kΩ; Supplier 1: Digi-Key; Supplier Part Number 1: 311-33.2KLRCT-ND
footprint RESISTOR 0402 (1mm x 0.5mm)
pins: 1, 2

## RC0402FR-0736KL
designator R?, comment 36kΩ 1%
RES SMD 36K OHM 1% 1/16W 0402; Manufacturer: Yageo; Manufacturer Part Number: RC0402FR-0736KL; Power (Watts): 0.063W, 1/16W; Temperature Coefficient: ±100ppm/°C; Category: Resistors; Tolerance: ±1%; Operating Temperature: -55°C ~ 155°C; Resistance: 36kΩ; Supplier 1: Digi-Key; Supplier Part Number 1: 311-36.0KLRCT-ND
footprint RESISTOR 0402 (1mm x 0.5mm)
pins: 1, 2

## RC0402FR-0739KL
designator R?, comment 39kΩ 1%
RES SMD 39K OHM 1% 1/16W 0402; Manufacturer: Yageo; Manufacturer Part Number: RC0402FR-0739KL; Power (Watts): 0.063W, 1/16W; Temperature Coefficient: ±100ppm/°C; Category: Resistors; Tolerance: ±1%; Operating Temperature: -55°C ~ 155°C; Resistance: 39kΩ; Supplier 1: Digi-Key; Supplier Part Number 1: 311-39.0KLRCT-ND
footprint RESISTOR 0402 (1mm x 0.5mm)
pins: 1, 2

## RC0402FR-0745K3L
designator R?, comment 45.3kΩ 1%
RES SMD 45.3K OHM 1% 1/16W 0402; Manufacturer: Yageo; Manufacturer Part Number: RC0402FR-0745K3L; Power (Watts): 0.063W, 1/16W; Temperature Coefficient: ±100ppm/°C; Category: Resistors; Tolerance: ±1%; Operating Temperature: -55°C ~ 155°C; Resistance: 45.3kΩ; Supplier 1: Digi-Key; Supplier Part Number 1: 311-45.3KLRCT-ND
footprint RESISTOR 0402 (1mm x 0.5mm)
pins: 1, 2

## RC0402FR-0747KL
designator R?, comment 47kΩ 1%
RES SMD 47K OHM 1% 1/16W 0402; Manufacturer: Yageo; Manufacturer Part Number: RC0402FR-0747KL; Power (Watts): 0.063W, 1/16W; Temperature Coefficient: ±100ppm/°C; Category: Resistors; Tolerance: ±1%; Operating Temperature: -55°C ~ 155°C; Resistance: 47kΩ; Supplier 1: Digi-Key; Supplier Part Number 1: 311-47.0KLRCT-ND
footprint RESISTOR 0402 (1mm x 0.5mm)
pins: 1, 2

## RC0402FR-0747RL
designator R?, comment 47Ω 1%
RES SMD 47 OHM 1% 1/16W 0402; Manufacturer: Yageo; Manufacturer Part Number: RC0402FR-0747RL; Power (Watts): 0.063W, 1/16W; Temperature Coefficient: ±100ppm/°C; Category: Resistors; Tolerance: ±1%; Operating Temperature: -55°C ~ 155°C; Resistance: 47Ω; Supplier 1: Digi-Key; Supplier Part Number 1: 311-47.0LRCT-ND
footprint RESISTOR 0402 (1mm x 0.5mm)
pins: 1, 2

## RC0402FR-0749R9L
designator R?, comment 49.9Ω 1%
RES SMD 49.9 OHM 1% 1/16W 0402; Manufacturer: Yageo; Manufacturer Part Number: RC0402FR-0749R9L; Power (Watts): 0.063W, 1/16W; Temperature Coefficient: ±100ppm/°C; Category: Resistors; Tolerance: ±1%; Operating Temperature: -55°C ~ 155°C; Resistance: 49.9Ω; Supplier 1: Digi-Key; Supplier Part Number 1: 311-49.9LRCT-ND
footprint RESISTOR 0402 (1mm x 0.5mm)
pins: 1, 2

## RC0402FR-0753K6L
designator R?, comment 53.6K 1%
RES 53.6K OHM 1% 1/16W 0402; Manufacturer: Yageo; Manufacturer Part Number: RC0402FR-0753K6L; Power (Watts): 0.063W, 1/16W; Temperature Coefficient: ±100ppm/°C; Resistance: 53.6kΩ; Category: Resistors; Tolerance: ±1%; Operating Temperature: -55°C ~ 155°C; Supplier 1: Digi-Key; Supplier Part Number 1: 311-53.6KLRCT-ND
footprint RESISTOR 0402 (1mm x 0.5mm)
pins: 1, 2

## RC0402FR-0754K9L
designator R?, comment 54.9kΩ 1%
RES SMD 54.9K OHM 1% 1/16W 0402; Manufacturer: Yageo; Manufacturer Part Number: RC0402FR-0754K9L; Power (Watts): 0.063W, 1/16W; Temperature Coefficient: ±100ppm/°C; Category: Resistors; Tolerance: ±1%; Operating Temperature: -55°C ~ 155°C; Resistance: 54.9kΩ; Supplier 1: Digi-Key; Supplier Part Number 1: YAG3185CT-ND
footprint RESISTOR 0402 (1mm x 0.5mm)
pins: 1, 2

## RC0402FR-0754R9L
designator R?, comment 54.9Ω 1%
RES SMD 54.9 OHM 1% 1/16W 0402; Manufacturer: Yageo; Manufacturer Part Number: RC0402FR-0754R9L; Power (Watts): 0.063W, 1/16W; Temperature Coefficient: ±100ppm/°C; Category: Resistors; Tolerance: ±1%; Operating Temperature: -55°C ~ 155°C; Resistance: 54.9Ω; Supplier 1: Digi-Key; Supplier Part Number 1: 311-54.9LRCT-ND
footprint RESISTOR 0402 (1mm x 0.5mm)
pins: 1, 2

## RC0402FR-0756KL
designator R?, comment 56kΩ 1%
RES SMD 56K OHM 1% 1/16W 0402; Manufacturer: Yageo; Manufacturer Part Number: RC0402FR-0756KL; Power (Watts): 0.063W, 1/16W; Temperature Coefficient: ±100ppm/°C; Category: Resistors; Tolerance: ±1%; Operating Temperature: -55°C ~ 155°C; Resistance: 56kΩ; Supplier 1: Newark; Supplier Part Number 1: 42K3962; Supplier 2: Digi-Key; Supplier Part Number 2: 311-56.0KLRCT-ND; Supplier 3: Mouser; Supplier Part Number 3: 603-RC0402FR-0756KL
footprint RESISTOR 0402 (1mm x 0.5mm)
pins: 1, 2

## RC0402FR-0773K2L
designator R?, comment 73.2kΩ 1%
RES SMD 73.2K OHM 1% 1/16W 0402; Manufacturer: Yageo; Manufacturer Part Number: RC0402FR-0773K2L; Power (Watts): 0.063W, 1/16W; Temperature Coefficient: ±100ppm/°C; Category: Resistors; Tolerance: ±1%; Operating Temperature: -55°C ~ 155°C; Resistance: 73.2kΩ; Supplier 1: Digi-Key; Supplier Part Number 1: YAG3226CT-ND
footprint RESISTOR 0402 (1mm x 0.5mm)
pins: 1, 2

## RC0402FR-07100KL
designator R?, comment 100kΩ 1%
RES SMD 100K OHM 1% 1/16W 0402; Manufacturer: Yageo; Manufacturer Part Number: RC0402FR-07100KL; Power (Watts): 0.063W, 1/16W; Temperature Coefficient: ±100ppm/°C; Category: Resistors; Tolerance: ±1%; Operating Temperature: -55°C ~ 155°C; Resistance: 100kΩ; Supplier 1: Digi-Key; Supplier Part Number 1: CR0402-FX-1003GLFCT-ND; Supplier 2: Mouser; Supplier Part Number 2: 652-CR0402FX-1003GLF; Supplier 3: Digi-Key; Supplier Part Number 3: 311-100KLRCT-ND
footprint RESISTOR 0402 (1mm x 0.5mm)
pins: 1, 2

## RC0402FR-07100RL
designator R?, comment 100Ω 1%
RES SMD 100 OHM 1% 1/16W 0402; Manufacturer: Yageo; Manufacturer Part Number: RC0402FR-07100RL; Power (Watts): 0.063W, 1/16W; Temperature Coefficient: ±100ppm/°C; Category: Resistors; Tolerance: ±1%; Operating Temperature: -55°C ~ 155°C; Resistance: 100Ω; Supplier 1: Digi-Key; Supplier Part Number 1: 311-100LRCT-ND
footprint RESISTOR 0402 (1mm x 0.5mm)
pins: 1, 2

## RC0402FR-07120KL
designator R?, comment 120kΩ 1%
RES SMD 120K OHM 1% 1/16W 0402; Manufacturer: Yageo; Manufacturer Part Number: RC0402FR-07120KL; Power (Watts): 0.063W, 1/16W; Temperature Coefficient: ±100ppm/°C; Category: Resistors; Tolerance: ±1%; Operating Temperature: -55°C ~ 155°C; Resistance: 120kΩ; Supplier 1: Digi-Key; Supplier Part Number 1: 311-120KLRCT-ND
footprint RESISTOR 0402 (1mm x 0.5mm)
pins: 1, 2

## RC0402FR-07150KL
designator R?, comment 150kΩ 1%
RES SMD 150K OHM 1% 1/16W 0402; Manufacturer: Yageo; Manufacturer Part Number: RC0402FR-07150KL; Power (Watts): 0.063W, 1/16W; Temperature Coefficient: ±100ppm/°C; Category: Resistors; Tolerance: ±1%; Operating Temperature: -55°C ~ 155°C; Resistance: 150kΩ; Supplier 1: Digi-Key; Supplier Part Number 1: 311-150KLRCT-ND
footprint RESISTOR 0402 (1mm x 0.5mm)
pins: 1, 2

## RC0402FR-07180KL
designator R?, comment 180kΩ 1%
RES SMD 180K OHM 1% 1/16W 0402; Manufacturer: Yageo; Manufacturer Part Number: RC0402FR-07180KL; Power (Watts): 0.063W, 1/16W; Temperature Coefficient: ±100ppm/°C; Category: Resistors; Tolerance: ±1%; Operating Temperature: -55°C ~ 155°C; Resistance: 180kΩ; Supplier 1: Digi-Key; Supplier Part Number 1: 311-180KLRCT-ND; Supplier 2: Mouser; Supplier Part Number 2: 603-RC0402FR-07180KL; Supplier 3: Newark; Supplier Part Number 3: 12AC2052
footprint RESISTOR 0402 (1mm x 0.5mm)
pins: 1, 2

## RC0402FR-07180RL
designator R?, comment 180Ω 1%
RES SMD 180 OHM 1% 1/16W 0402; Manufacturer: Yageo; Manufacturer Part Number: RC0402FR-07180RL; Power (Watts): 0.063W, 1/16W; Temperature Coefficient: ±100ppm/°C; Category: Resistors; Tolerance: ±1%; Operating Temperature: -55°C ~ 155°C; Resistance: 180Ω; Supplier 1: Digi-Key; Supplier Part Number 1: 311-180LRCT-ND
footprint RESISTOR 0402 (1mm x 0.5mm)
pins: 1, 2

## RC0402FR-07210RL
designator R?, comment 210Ω 1%
RES SMD 210 OHM 1% 1/16W 0402; Manufacturer: Yageo; Manufacturer Part Number: RC0402FR-07210RL; Power (Watts): 0.063W, 1/16W; Temperature Coefficient: ±100ppm/°C; Category: Resistors; Tolerance: ±1%; Operating Temperature: -55°C ~ 155°C; Resistance: 210Ω; Supplier 1: Digi-Key; Supplier Part Number 1: YAG3054CT-ND
footprint RESISTOR 0402 (1mm x 0.5mm)
pins: 1, 2

## RC0402FR-07240RL
designator R?, comment 240Ω 1%
RES SMD 240 OHM 1% 1/16W 0402; Manufacturer: Yageo; Manufacturer Part Number: RC0402FR-07240RL; Power (Watts): 0.063W, 1/16W; Temperature Coefficient: ±100ppm/°C; Category: Resistors; Tolerance: ±1%; Operating Temperature: -55°C ~ 155°C; Resistance: 240Ω; Supplier 1: Digi-Key; Supplier Part Number 1: 311-240LRCT-ND
footprint RESISTOR 0402 (1mm x 0.5mm)
pins: 1, 2

## RC0402FR-07330RL
designator R?, comment 330Ω 1%
RES SMD 330 OHM 1% 1/16W 0402; Manufacturer: Yageo; Manufacturer Part Number: RC0402FR-07330RL; Power (Watts): 0.063W, 1/16W; Temperature Coefficient: ±100ppm/°C; Category: Resistors; Tolerance: ±1%; Operating Temperature: -55°C ~ 155°C; Resistance: 330Ω; Supplier 1: Digi-Key; Supplier Part Number 1: 311-330LRCT-ND; Supplier 2: Mouser; Supplier Part Number 2: 603-RC0402FR-07330RL; Supplier 3: Newark; Supplier Part Number 3: 98K7535
footprint RESISTOR 0402 (1mm x 0.5mm)
pins: 1, 2

## RC0402FR-07470KL
designator R?, comment 470kΩ 1%
RES SMD 470K OHM 1% 1/16W 0402; Manufacturer: Yageo; Manufacturer Part Number: RC0402FR-07470KL; Power (Watts): 0.063W, 1/16W; Temperature Coefficient: ±100ppm/°C; Category: Resistors; Tolerance: ±1%; Operating Temperature: -55°C ~ 155°C; Resistance: 470kΩ; Supplier 1: Digi-Key; Supplier Part Number 1: 311-470KLRCT-ND; Supplier 2: Arrow Electronics; Supplier Part Number 2: RC0402FR-07470KL; Supplier 3: Newark; Supplier Part Number 3: 26M6789; Supplier 4: Newark; Supplier Part Number 4: 67R9939; Supplier 5: Future Electronics; Supplier Part Number 5: 7702467
footprint RESISTOR 0402 (1mm x 0.5mm)
pins: 1, 2

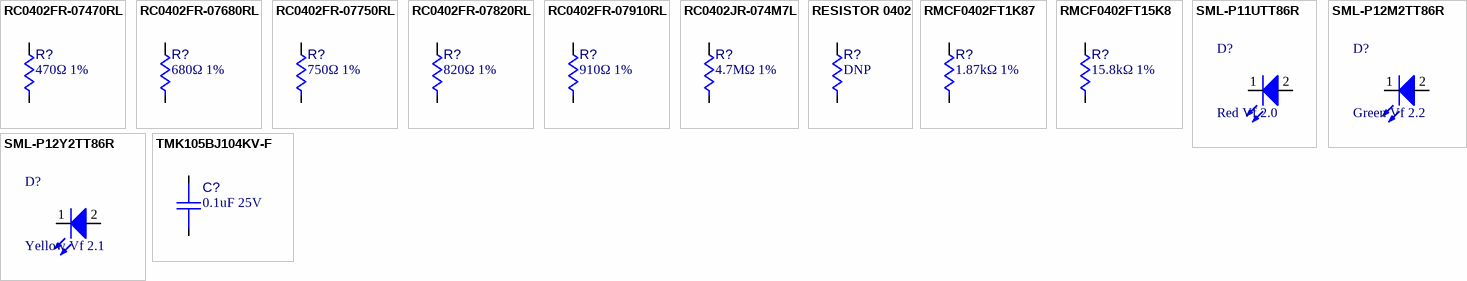
[diagram p2: symbols RC0402FR-07470RL to TMK105BJ104KV-F]

## RC0402FR-07470RL
designator R?, comment 470Ω 1%
RES SMD 470 OHM 1% 1/16W 0402; Manufacturer: Yageo; Manufacturer Part Number: RC0402FR-07470RL; Power (Watts): 0.063W, 1/16W; Temperature Coefficient: ±100ppm/°C; Category: Resistors; Tolerance: ±1%; Operating Temperature: -55°C ~ 155°C; Resistance: 470Ω; Supplier 1: Digi-Key; Supplier Part Number 1: 311-470LRCT-ND; Supplier 2: Newark; Supplier Part Number 2: 98K7548; Supplier 3: Farnell; Supplier Part Number 3: 9239197
footprint RESISTOR 0402 (1mm x 0.5mm)
pins: 1, 2

## RC0402FR-07680RL
designator R?, comment 680Ω 1%
RES SMD 680 OHM 1% 1/16W 0402; Manufacturer: Yageo; Manufacturer Part Number: RC0402FR-07680RL; Power (Watts): 0.063W, 1/16W; Temperature Coefficient: ±100ppm/°C; Category: Resistors; Tolerance: ±1%; Operating Temperature: -55°C ~ 155°C; Resistance: 680Ω; Supplier 1: Digi-Key; Supplier Part Number 1: 311-680LRCT-ND
footprint RESISTOR 0402 (1mm x 0.5mm)
pins: 1, 2

## RC0402FR-07750RL
designator R?, comment 750Ω 1%
RES SMD 750 OHM 1% 1/16W 0402; Manufacturer: Yageo; Manufacturer Part Number: RC0402FR-07750RL; Power (Watts): 0.063W, 1/16W; Temperature Coefficient: ±100ppm/°C; Category: Resistors; Tolerance: ±1%; Operating Temperature: -55°C ~ 155°C; Resistance: 750Ω; Supplier 1: Digi-Key; Supplier Part Number 1: 311-750LRCT-ND
footprint RESISTOR 0402 (1mm x 0.5mm)
pins: 1, 2

## RC0402FR-07820RL
designator R?, comment 820Ω 1%
RES SMD 820 OHM 1% 1/16W 0402; Manufacturer: Yageo; Manufacturer Part Number: RC0402FR-07820RL; Power (Watts): 0.063W, 1/16W; Temperature Coefficient: ±100ppm/°C; Category: Resistors; Tolerance: ±1%; Operating Temperature: -55°C ~ 155°C; Resistance: 820Ω; Supplier 1: Digi-Key; Supplier Part Number 1: 311-820LRCT-ND; Supplier 2: Newark; Supplier Part Number 2: 26M6794; Supplier 3: Mouser; Supplier Part Number 3: 603-RC0402FR-07820RL
footprint RESISTOR 0402 (1mm x 0.5mm)
pins: 1, 2

## RC0402FR-07910RL
designator R?, comment 910Ω 1%
RES SMD 910 OHM 1% 1/16W 0402; Manufacturer: Yageo; Manufacturer Part Number: RC0402FR-07910RL; Power (Watts): 0.063W, 1/16W; Temperature Coefficient: ±100ppm/°C; Category: Resistors; Tolerance: ±1%; Operating Temperature: -55°C ~ 155°C; Resistance: 910Ω; Supplier 1: Digi-Key; Supplier Part Number 1: 311-910LRCT-ND
footprint RESISTOR 0402 (1mm x 0.5mm)
pins: 1, 2

## RC0402JR-074M7L
designator R?, comment 4.7MΩ 1%
RES SMD 4.7M OHM 5% 1/16W 0402; Manufacturer: Yageo; Manufacturer Part Number: RC0402JR-074M7L; Power (Watts): 0.063W, 1/16W; Temperature Coefficient: ±100ppm/°C; Category: Resistors; Tolerance: ±5%; Operating Temperature: -55°C ~ 155°C; Resistance: 4.7MΩ; Supplier 1: Mouser; Supplier Part Number 1: 603-RC0402FR-074M7L; Supplier 2: Digi-Key; Supplier Part Number 2: YAG3304CT-ND; Supplier 3: Newark; Supplier Part Number 3: 82AH8030
footprint RESISTOR 0402 (1mm x 0.5mm)
pins: 1, 2

## RESISTOR 0402
designator R?, comment DNP
RESISTOR NOT POPULATED; Manufacturer: DNP; Manufacturer Part Number: DNP; Category: Resistors
footprint RESISTOR 0402 (1mm x 0.5mm)
pins: 1, 2

## RMCF0402FT1K87
designator R?, comment 1.87kΩ 1%
RES 1.87K OHM 1% 1/16W 0402; Manufacturer: Stackpole; Manufacturer Part Number: RMCF0402FT1K87; Power (Watts): 0.063W, 1/16W; Temperature Coefficient: ±100ppm/°C; Category: Resistors; Tolerance: ±1%; Operating Temperature: -55°C ~ 155°C; Resistance: 1.87kΩ; Supplier 1: Digi-Key; Supplier Part Number 1: RMCF0402FT1K87CT-ND; Supplier 2: Arrow Electronics; Supplier Part Number 2: RMCF0402FT1K87
footprint RESISTOR 0402 (1mm x 0.5mm)
pins: 1, 2

## RMCF0402FT15K8
designator R?, comment 15.8kΩ 1%
RES 15.8K OHM 1% 1/16W 0402; Manufacturer: Yageo; Manufacturer Part Number: RC0402FR-0715KL; Power (Watts): 0.063W, 1/16W; Temperature Coefficient: ±100ppm/°C; Category: Resistors; Tolerance: ±1%; Operating Temperature: -55°C ~ 155°C; Resistance: 15.8kΩ; Supplier 1: Digi-Key; Supplier 2: Digi-Key; Supplier 3: Newark; Supplier 4: Newark; Supplier Part Number 1: RMCF0402FT15K8CT-ND; Supplier Part Number 2: P15.8KCCT-ND; Supplier Part Number 3: 61M5279; Supplier Part Number 4: 52K8154
footprint RESISTOR 0402 (1mm x 0.5mm)
pins: 1, 2

## SML-P11UTT86R
designator D?, comment Red Vf 2.0
LED RED CLEAR 1006 SMD; Manufacturer: Lite-On Inc; Manufacturer Part Number: SML-P11UTT86R; Millicandela Rating: 70mcd; Voltage - Forward (Vf) (Typ): 2V; Current - Test: 20mA; Wavelength - Dominant: 615nm; Stock 1: 2439; Viewing Angle: -; Category: Optoelectronics; Supplier 1: Digi-Key; Supplier Part Number 1: SML-P11UTT86RCT-ND
footprint LED RED 0402 (1mm x 0.5mm)
pins: 1 K, 2 A

## SML-P12M2TT86R
designator D?, comment Green Vf 2.2
LED GREEN CLEAR 1006 SMD; Manufacturer: Lite-On Inc; Manufacturer Part Number: SML-P12M2TT86R; Millicandela Rating: 25mcd; Voltage - Forward (Vf) (Typ): 2.2V; Current - Test: 20mA; Wavelength - Dominant: 585nm; Stock 1: 2439; Viewing Angle: -; Category: Optoelectronics; Supplier 1: Digi-Key; Supplier 2: Mouser; Supplier 3: Newark; Supplier Part Number 1: 846-1191-1-ND; Supplier Part Number 2: 755-SML-P12M2TT86R; Supplier Part Number 3: 70AH6553
footprint LED GREEN 0402 (1mm x 0.5mm)
pins: 1 K, 2 A

## SML-P12Y2TT86R
designator D?, comment Yellow Vf 2.1
LED YELLOW CLEAR 1006 SMD; Manufacturer: Lite-On Inc; Manufacturer Part Number: SML-P12Y2TT86R; Millicandela Rating: 50mcd; Voltage - Forward (Vf) (Typ): 2.1V; Current - Test: 20mA; Wavelength - Dominant: 580nm; Stock 1: 2439; Viewing Angle: -; Category: Optoelectronics; Supplier 1: Digi-Key; Supplier Part Number 1: 846-1194-1-ND
footprint LED YELLOW 0402 (1mm x 0.5mm)
pins: 1 K, 2 A

## TMK105BJ104KV-F
designator C?, comment 0.1uF 25V
CAP CER 0.1UF 25V X7R 0402; Manufacturer: Taiyo Yuden; Manufacturer Part Number: TMK105BJ104KVF; Tolerance: ±10%; Category: Capacitors; Temperature Coefficient: X7R; Operating Temperature: -55°C ~ 125°C; Voltage - Rated: 25V; Mounting Type: Surface Mount, MLCC; Capacitance: 0.1uF; Supplier 1: Digi-Key; Supplier Part Number 1: 587-1456-1-ND; Supplier 2: Newark; Supplier Part Number 2: 93K5517; Supplier 3: Mouser; Supplier Part Number 3: 963-TMK105BJ104KV-F
footprint CAPC 0402 (1mmX0.5mm)
pins: 1, 2